# EAGLE library part FT232ADAPTER (library FT232Adapter)
PIN HEADER
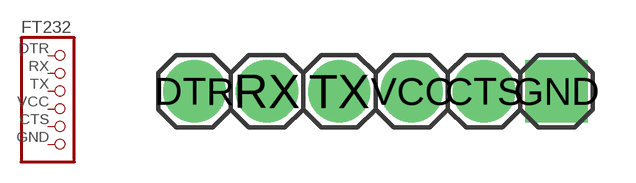
[diagram p0: symbol with the pads of 1X06; footprint 1X06]

Designator prefix JP

## FT232ADAPTER  [1X06]
CTS  CTS  pas
DTR  DTR  pas
GND  GND  pas
RX  RX  pas
TX  TX  pas
VCC  VCC  pas

## Footprint 1X06 (pad centres in mm)
PIN HEADER
drill 1.016 pad 2.184: CTS 3.81,0; DTR -6.35,0; RX -3.81,0; TX -1.27,0; VCC 1.27,0
drill 1.016 pad 2.184 square: GND 6.35,0